# Altium footprint library CONV_MPM3610GQV-P.PcbLib: 1 footprints
Each footprint in its own frame and in the unit in brackets; x right, y up, seen from the top. Pads: shape width x height; smd on the part's side, far side on the other; paste and mask are expansions set on the pad; w line width, h text height; cw(c..) or ccw(c..) is an arc to the next point about the centre after c.
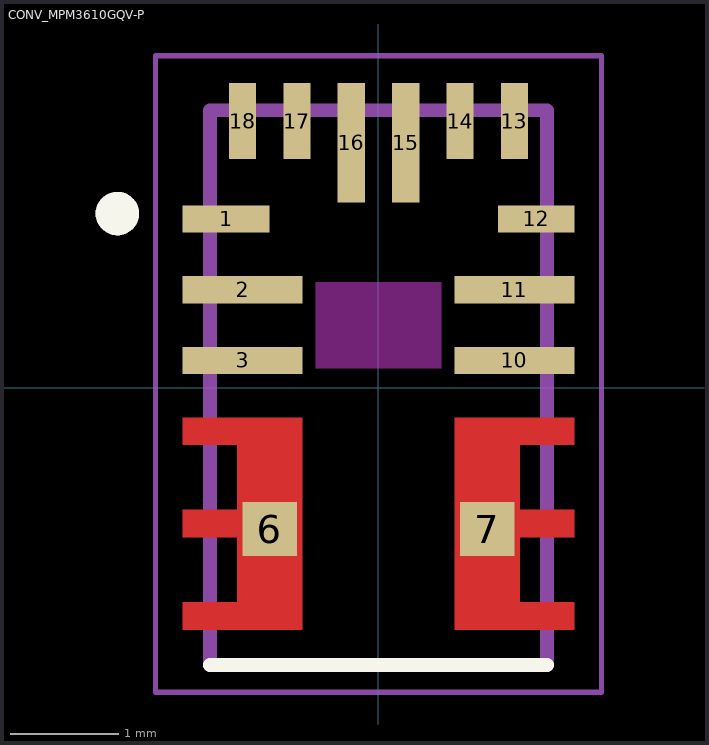
[diagram p0: the footprint, top view; thin cyan lines are the x and y axes]

## CONV_MPM3610GQV-P [mm]
height 1.65
pads (14):
  rect 0.8x0.25 smd: 1(-1.4,1.55)
  rect 1.1x0.25 smd: 2(-1.25,0.9) 3(-1.25,0.25) 10(1.25,0.25) 11(1.25,0.9)
  rect 0.5x0.5 smd paste-1 mask+0: 6(-1,-1.3) 7(1,-1.3)
  rect 0.7x0.25 smd: 12(1.45,1.55)
  rect 0.25x0.7 smd: 13(1.25,2.45) 14(0.75,2.45) 17(-0.75,2.45) 18(-1.25,2.45)
  rect 0.25x1.1 smd: 15(0.25,2.25) 16(-0.25,2.25)
Top Layer:
  region: -0.7,-2.225 -1.8,-2.225 -1.8,-1.975 -1.3,-1.975 -1.3,-1.375 -1.8,-1.375 -1.8,-1.125 -1.3,-1.125 -1.3,-0.525 -1.8,-0.525 -1.8,-0.275 -0.7,-0.275
  region: 1.8,-0.525 1.3,-0.525 1.3,-1.125 1.8,-1.125 1.8,-1.375 1.3,-1.375 1.3,-1.975 1.8,-1.975 1.8,-2.225 0.7,-2.225 0.7,-0.275 1.8,-0.275
Top Overlay:
  circle w0.2: c-2.4,1.6 r0.1
  lines w0.127: -1.55,-2.55 1.55,-2.55
Top Paste:
  region: -0.7,-2.225 -1.8,-2.225 -1.8,-1.975 -1.3,-1.975 -1.3,-1.375 -1.8,-1.375 -1.8,-1.125 -1.3,-1.125 -1.3,-0.525 -1.8,-0.525 -1.8,-0.275 -0.7,-0.275
  region: 1.8,-0.525 1.3,-0.525 1.3,-1.125 1.8,-1.125 1.8,-1.375 1.3,-1.375 1.3,-1.975 1.8,-1.975 1.8,-2.225 0.7,-2.225 0.7,-0.275 1.8,-0.275
Top Solder:
  region: -0.6,-2.325 -1.9,-2.325 -1.9,-1.875 -1.4,-1.875 -1.4,-1.475 -1.9,-1.475 -1.9,-1.025 -1.4,-1.025 -1.4,-0.625 -1.9,-0.625 -1.9,-0.2 -1.9,-0.175 -0.6,-0.175
  region: 1.9,-0.2 1.9,-0.625 1.4,-0.625 1.4,-1.025 1.9,-1.025 1.9,-1.475 1.4,-1.475 1.4,-1.875 1.9,-1.875 1.9,-2.325 0.6,-2.325 0.6,-0.175 1.9,-0.175
Keep-Out Layer:
  region: 0.575,0.18 -0.575,0.18 -0.575,0.97 0.575,0.97
Mechanical 13:
  circle w0.2: c-2.4,1.6 r0.1
  lines w0.127: -1.55,-2.55 -1.55,2.55 1.55,2.55 1.55,-2.55 -1.55,-2.55
Mechanical 15:
  lines w0.05: -2.05,-2.8 2.05,-2.8 2.05,3.05 -2.05,3.05 -2.05,-2.8